# EAGLE library part NE555PSRE4 (library NE555PSRE4)
Timers & Support Products Precision Source: Datasheet <http://www.ti.com/lit/ds/symlink/ne555.pdf>
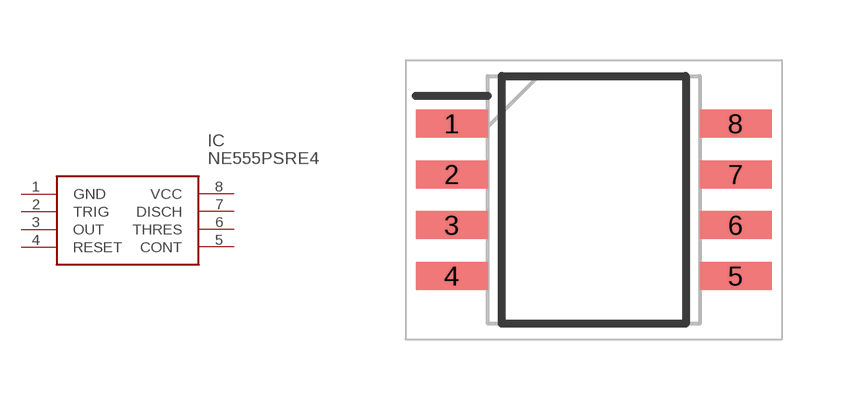
[diagram p0: symbol with the pads of SOIC127P780X200-8N; footprint SOIC127P780X200-8N]

Designator prefix IC

## NE555PSRE4 (Description: Timers & Support Products Precision; Height: 2mm; Manufacturer_Name: Texas Instruments; Manufacturer_Part_Number: NE555PSRE4; Mouser_Part_Number: 595-NE555PSRE4; Mouser_Price-Stock: https://www.mouser.co.uk/ProductDetail/Texas-Instruments/NE555PSRE4?qs=rLYyFdxB%2FmqTKEcMFJ%252BBIw%3D%3D)  [SOIC127P780X200-8N]
1  GND  pwr
2  TRIG
3  OUT  out
4  RESET
5  CONT
6  THRES
7  DISCH
8  VCC  pwr

## Footprint SOIC127P780X200-8N (pad centres in mm)
PS (R-PDSO-G8)
smd 1.8 x 0.7: 1 -3.55,1.905; 2 -3.55,0.635; 3 -3.55,-0.635; 4 -3.55,-1.905; 5 3.55,-1.905; 6 3.55,-0.635; 7 3.55,0.635; 8 3.55,1.905